# EAGLE library part ATTINY2313 (library Parts)
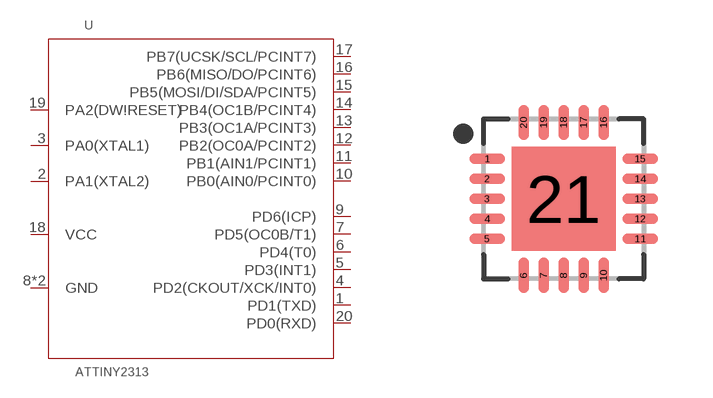
[diagram p1: symbol with the pads of QFN50P400X400X80-21T260N; footprint QFN50P400X400X80-21T260N]

Designator prefix -

## ATTINY2313A  [QFN50P400X400X80-21T260N]
1  PD1(TXD)  out
2  PA1(XTAL2)  in
3  PA0(XTAL1)  in
4  PD2(CKOUT/XCK/INT0)  in
5  PD3(INT1)  out
6  PD4(T0)  in
7  PD5(OC0B/T1)  in
8  GND  in
9  PD6(ICP)  out
10  PB0(AIN0/PCINT0)  out
11  PB1(AIN1/PCINT1)  out
12  PB2(OC0A/PCINT2)  out
13  PB3(OC1A/PCINT3)  in
14  PB4(OC1B/PCINT4)  in
15  PB5(MOSI/DI/SDA/PCINT5)  out
16  PB6(MISO/DO/PCINT6)  in
17  PB7(UCSK/SCL/PCINT7)  in
18  VCC  sup
19  PA2(DW\!RESET)  out
20  PD0(RXD)  in
21  GND  in

## Footprint QFN50P400X400X80-21T260N (pad centres in mm)
20-QFN, 0.50 mm pitch, 4.00 X 4.00 X 0.80 mm body, 2.60 X 2.60 mm thermal pad 20-pin QFN package with 0.50 mm pitch with body size 4.00 X 4.00 X 0.80 mm and thermal pad size 2.60 X 2.60 mm
smd 0.887 x 0.264: 1 -1.912,1; 2 -1.912,0.5; 3 -1.912,0; 4 -1.912,-0.5; 5 -1.912,-1; 11 1.912,-1; 12 1.912,-0.5; 13 1.912,0; 14 1.912,0.5; 15 1.912,1
smd 0.264 x 0.887: 6 -1,-1.912; 7 -0.5,-1.912; 8 0,-1.912; 9 0.5,-1.912; 10 1,-1.912; 16 1,1.912; 17 0.5,1.912; 18 0,1.912; 19 -0.5,1.912; 20 -1,1.912
smd 2.6 x 2.6: 21 0,0